# Altium footprint library B32776Z4406K000.PcbLib: 1 footprints
Each footprint in its own frame and in the unit in brackets; x right, y up, seen from the top. Pads: shape width x height; smd on the part's side, far side on the other; paste and mask are expansions set on the pad; w line width, h text height; cw(c..) or ccw(c..) is an arc to the next point about the centre after c.
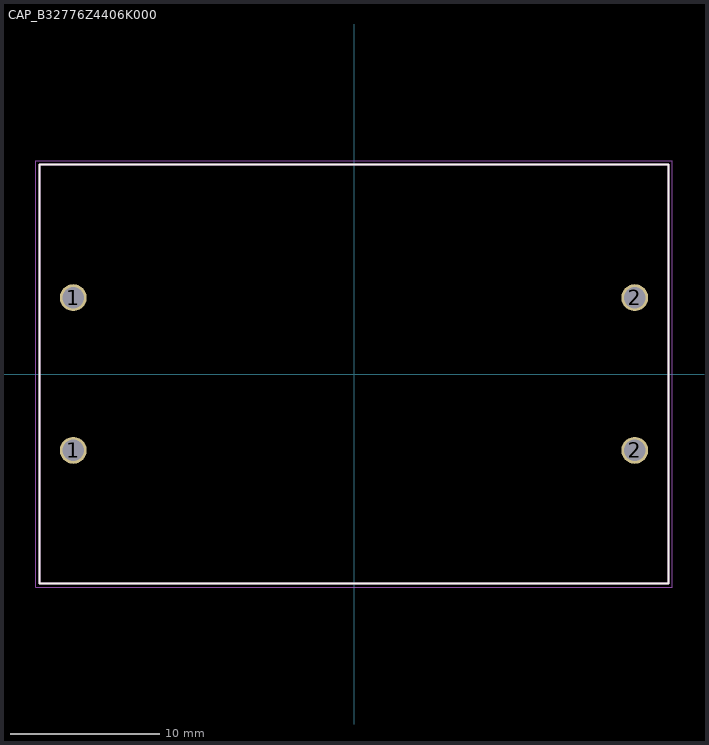
[diagram p0: the footprint, top view; thin cyan lines are the x and y axes]

## CAP_B32776Z4406K000 [mm]
height 37
pads (4):
  round 1.8 hole 1.45 mask+0.102: 1(-18.75,-5.1) 1(-18.75,5.1) 2(18.75,-5.1) 2(18.75,5.1)
Top Overlay:
  lines w0.127: -21,-14 -21,14 21,14 21,-14 -21,-14
Assembly Top:
  lines w0.127: -21,-14 21,-14 21,14 -21,14 -21,-14
Courtyard Top:
  lines w0.05: -21.25,-14.25 21.25,-14.25 21.25,14.25 -21.25,14.25 -21.25,-14.25
3D body "step_temp.STEP": height 37, standoff -6, extent -21,-14 21,14